# EAGLE library part OB2269 (library CaliBeta-Integrados-8pin)
Controlador de corritente por PWM
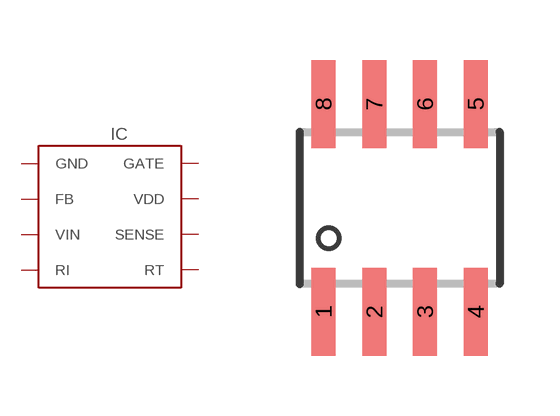
[diagram p1: symbol with the pads of SOIC-8; footprint SOIC-8]

Designator prefix IC

## OB2269  [SOIC-8]
1  GND  pwr
2  FB
3  VIN
4  RI
5  RT
6  SENSE
7  VDD  pwr
8  GATE

## Footprint SOIC-8 (pad centres in mm)
smd 0.6 x 2.2: 1 -1.905,-2.6; 2 -0.635,-2.6; 3 0.635,-2.6; 4 1.905,-2.6; 5 1.905,2.6; 6 0.635,2.6; 7 -0.635,2.6; 8 -1.905,2.6